# Altium schematic symbol library SJ1-3523N.SchLib: 1 symbol
Pins are listed as number, name and electrical type; pins without a type are passive.

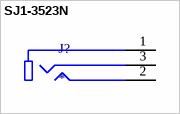
[diagram p0: symbol SJ1-3523N]

## SJ1-3523N
designator J?
3.5 mm Right-Angle Stereo Jack, 3 Pin PCB Mount, Non-Threaded; MP: SJ1-3523N; MF: {'manufacturer': u'CUI Devices'}; Availability: Unavailable; Price: None; Package: None; Value: *
footprint CUI_SJ1-3523N
pins: 1, 2, 3